# Altium schematic symbol library FET-N-Small.SchLib: 2 symbols
Pins are listed as number, name and electrical type; pins without a type are passive.

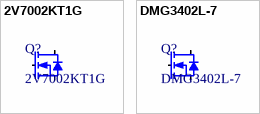
[diagram p0: symbols 2V7002KT1G to DMG3402L-7]

## 2V7002KT1G
designator Q?
MOSFET N-CH 60V 320MA SOT-23-3; Supplier 1: Digi-Key; Supplier Part Number 1: 2V7002KT1GOSCT-ND; Volt: 60V; Package / Case: SOT-23-3; Mounted: Yes
footprint SOT-23-3 (SOT23-6, from TI DBZ (R-PDSO-G3))
pins: 1 G, 2 S, 3 D

## DMG3402L-7
designator Q?
N-Channel 30 V 4A (Ta) 1.4W (Ta) Surface Mount SOT-23-3; Volt: 30V; Supplier 1: Digi-Key; Supplier Part Number 1: DMG3402L-7DICT-ND; Package / Case: SOT-23-3; Mounted: Yes; Current: 4A
footprint SOT-23-3 (SOT23-6, from TI DBZ (R-PDSO-G3))
pins: 1 G, 2 S, 3 D